# EAGLE library part SN74LVC541APWR (library SN74LVC541APWR)
SN74LVC541APWR, 8-Bit Buffer, Line Driver, LVC, 3-State Non-Inverting 1.65 3.6 V 20-Pin TSSOP Source: Datasheet <https://datasheet.datasheetarchive.com/originals/distributors/SFDatasheet-6/sf-000126984.pdf>
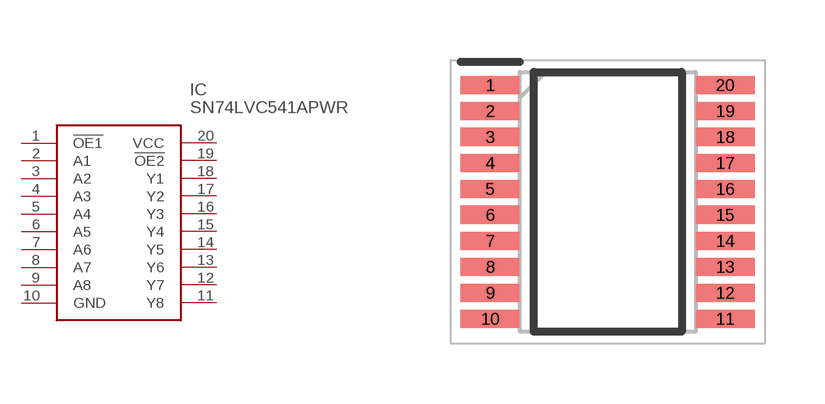
[diagram p0: symbol with the pads of SOP65P640X120-20N; footprint SOP65P640X120-20N]

Designator prefix IC

## SN74LVC541APWR (Arrow_Part_Number: SN74LVC541APWR; Arrow_Price-Stock: https://www.arrow.com/en/products/sn74lvc541apwr/texas-instruments?region=nac; Description: SN74LVC541APWR, 8-Bit Buffer, Line Driver, LVC, 3-State Non-Inverting 1.65 3.6 V 20-Pin TSSOP; Height: 1.2mm; Manufacturer_Name: Texas Instruments; Manufacturer_Part_Number: SN74LVC541APWR; Mouser_Part_Number: 595-SN74LVC541APWR; Mouser_Price-Stock: https://www.mouser.co.uk/ProductDetail/Texas-Instruments/SN74LVC541APWR?qs=DcvZ7Fltd5yUfWNWQTtNtQ%3D%3D)  [SOP65P640X120-20N]
1  !OE1
2  A1
3  A2
4  A3
5  A4
6  A5
7  A6
8  A7
9  A8
10  GND
11  Y8
12  Y7
13  Y6
14  Y5
15  Y4
16  Y3
17  Y2
18  Y1
19  !OE2
20  VCC

## Footprint SOP65P640X120-20N (pad centres in mm)
PW
smd 1.475 x 0.45: 1 -2.938,2.925; 2 -2.938,2.275; 3 -2.938,1.625; 4 -2.938,0.975; 5 -2.938,0.325; 6 -2.938,-0.325; 7 -2.938,-0.975; 8 -2.938,-1.625; 9 -2.938,-2.275; 10 -2.938,-2.925; 11 2.938,-2.925; 12 2.938,-2.275; 13 2.938,-1.625; 14 2.938,-0.975; 15 2.938,-0.325; 16 2.938,0.325; 17 2.938,0.975; 18 2.938,1.625; 19 2.938,2.275; 20 2.938,2.925